# Altium footprint library conn_2.PcbLib: 1 footprints
Each footprint in its own frame and in the unit in brackets; x right, y up, seen from the top. Pads: shape width x height; smd on the part's side, far side on the other; paste and mask are expansions set on the pad; w line width, h text height; cw(c..) or ccw(c..) is an arc to the next point about the centre after c.
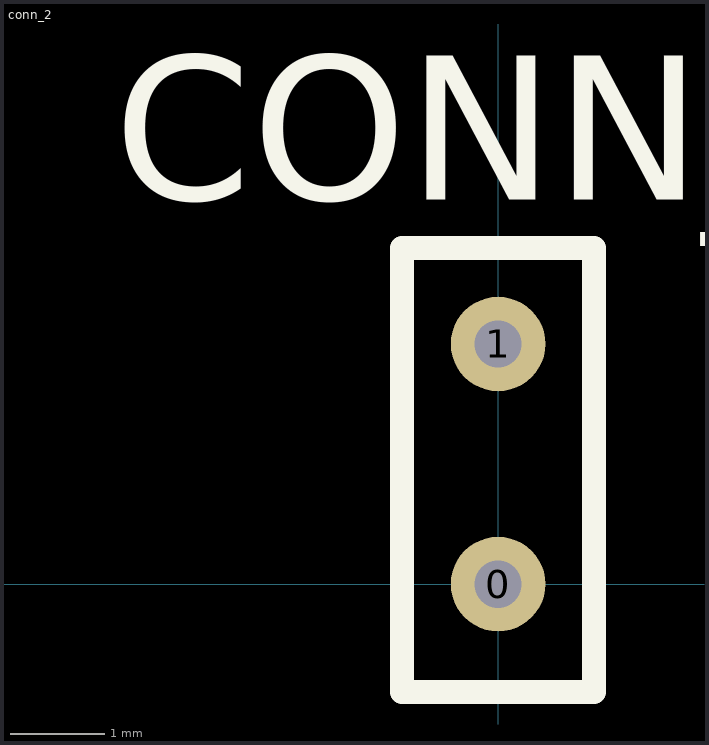
[diagram p0: the footprint, top view; thin cyan lines are the x and y axes]

## conn_2 [mm]
pads (2):
  round 1 hole 0.5: 0(0,0) 1(0,2.54)
Top Overlay:
  lines w0.254: -1.016,-1.143 1.016,-1.143 1.016,3.556 -1.016,3.556 -1.016,-1.143
  text "CONN_2" at -4.064,4.064 h1.52